# EAGLE library part FT230X (library IC)
FT230X FTDI FT230X USB to Basic UART
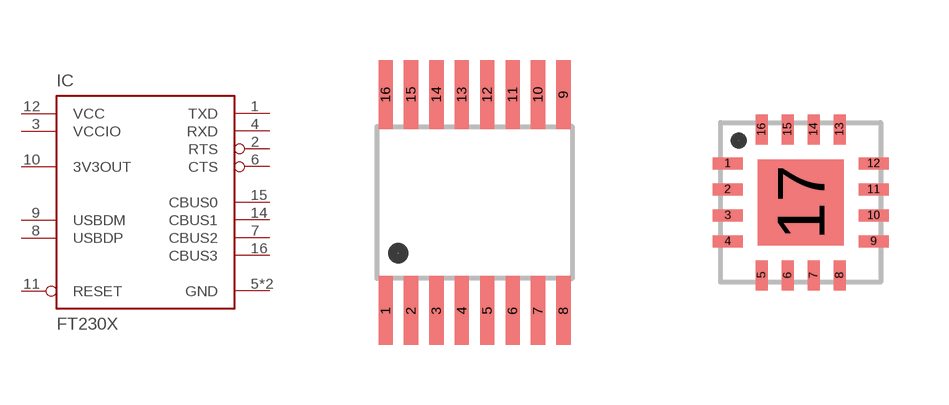
[diagram p0: symbol with the pads of SSOP-16; footprints SSOP-16, QFN-16]

Designator prefix IC

## FT230XS  [SSOP-16]
1  TXD  out
2  RTS  out
3  VCCIO  pwr
4  RXD  in
5  GND  pwr
6  CTS  in
7  CBUS2
8  USBDP
9  USBDM
10  3V3OUT  sup
11  RESET  in
12  VCC  pwr
13  GND  pwr
14  CBUS1
15  CBUS0
16  CBUS3

## FT230XQ  [QFN-16]
1  VCCIO  pwr
2  RXD  in
3  GND  pwr
4  CTS  in
5  CBUS2
6  USBDP
7  USBDM
8  3V3OUT  sup
9  RESET  in
10  VCC  pwr
11  CBUS1
12  CBUS0
13  GND  pwr
14  CBUS3
15  TXD  out
16  RTS  out
17  GND  pwr

## Footprint SSOP-16 (pad centres in mm)
smd 0.356 x 1.727: 1 -2.223,-2.705; 2 -1.587,-2.705; 3 -0.953,-2.705; 4 -0.318,-2.705; 5 0.318,-2.705; 6 0.953,-2.705; 7 1.587,-2.705; 8 2.223,-2.705; 9 2.223,2.705; 10 1.587,2.705; 11 0.953,2.705; 12 0.318,2.705; 13 -0.318,2.705; 14 -0.953,2.705; 15 -1.587,2.705; 16 -2.223,2.705

## Footprint QFN-16 (pad centres in mm)
smd 0.75 x 0.3: 1 -1.825,0.975; 2 -1.825,0.325; 3 -1.825,-0.325; 4 -1.825,-0.975; 9 1.825,-0.975; 10 1.825,-0.325; 11 1.825,0.325; 12 1.825,0.975
smd 0.3 x 0.75: 5 -0.975,-1.825; 6 -0.325,-1.825; 7 0.325,-1.825; 8 0.975,-1.825; 13 0.975,1.825; 14 0.325,1.825; 15 -0.325,1.825; 16 -0.975,1.825
smd 2.15 x 2.15: 17 0,0